# Altium schematic symbol library C1608X5R1A226M080AC.SchLib: 1 symbol
Pins are listed as number, name and electrical type; pins without a type are passive.

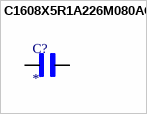
[diagram p0: symbol C1608X5R1A226M080AC]

## C1608X5R1A226M080AC
designator C?
MF: {'manufacturer': u'TDK'}; MP: C1608X5R1A226M080AC; Package: None; Price: None; Value: *; Availability: Unavailable
footprint CAPC1608X100N
pins: 1, 2